# EAGLE library part BQ7692000PW (library BQ7692000PW)
3 to 5-Series Cell Li-Ion and Li-Phosphate Battery Monitor (bq76940 Family) Source: Datasheet <http://www.ti.com/lit/gpn/BQ76920>
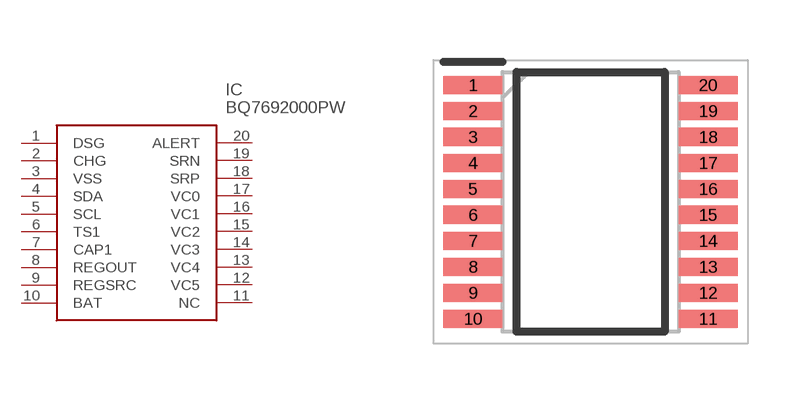
[diagram p0: symbol with the pads of SOP65P640X120-20N; footprint SOP65P640X120-20N]

Designator prefix IC

## BQ7692000PW (Description: 3 to 5-Series Cell Li-Ion and Li-Phosphate Battery Monitor (bq76940 Family); Height: 1.2mm; Manufacturer_Name: Texas Instruments; Manufacturer_Part_Number: BQ7692000PW; Mouser_Part_Number: 595-BQ7692000PW; Mouser_Price-Stock: https://www.mouser.co.uk/ProductDetail/Texas-Instruments/BQ7692000PW?qs=p08Uhw9w2FzjYcjaCLld%2Fg%3D%3D)  [SOP65P640X120-20N]
1  DSG
2  CHG
3  VSS
4  SDA
5  SCL
6  TS1
7  CAP1
8  REGOUT
9  REGSRC
10  BAT
11  NC  nc
12  VC5
13  VC4
14  VC3
15  VC2
16  VC1
17  VC0
18  SRP
19  SRN
20  ALERT

## Footprint SOP65P640X120-20N (pad centres in mm)
PW (R-PDSO-G20)
smd 1.475 x 0.45: 1 -2.938,2.925; 2 -2.938,2.275; 3 -2.938,1.625; 4 -2.938,0.975; 5 -2.938,0.325; 6 -2.938,-0.325; 7 -2.938,-0.975; 8 -2.938,-1.625; 9 -2.938,-2.275; 10 -2.938,-2.925; 11 2.938,-2.925; 12 2.938,-2.275; 13 2.938,-1.625; 14 2.938,-0.975; 15 2.938,-0.325; 16 2.938,0.325; 17 2.938,0.975; 18 2.938,1.625; 19 2.938,2.275; 20 2.938,2.925